# Altium schematic symbol library TPS563208DDCR.Schlib: 1 symbol
Pins are listed as number, name and electrical type; pins without a type are passive.

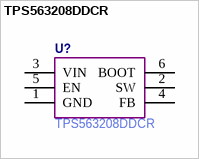
[diagram p0: symbol TPS563208DDCR]

## TPS563208DDCR
designator U?
Manufacturer Part Number: TPS563208DDCR
pins: 1 GND, 2 SW, 3 VIN, 4 FB, 5 EN, 6 BOOT